# Altium footprint library PcbLib1.PcbLib: 22 footprints (part 2 of 2)
Each footprint in its own frame and in the unit in brackets; x right, y up, seen from the top. Pads: shape width x height; smd on the part's side, far side on the other; paste and mask are expansions set on the pad; w line width, h text height; cw(c..) or ccw(c..) is an arc to the next point about the centre after c.
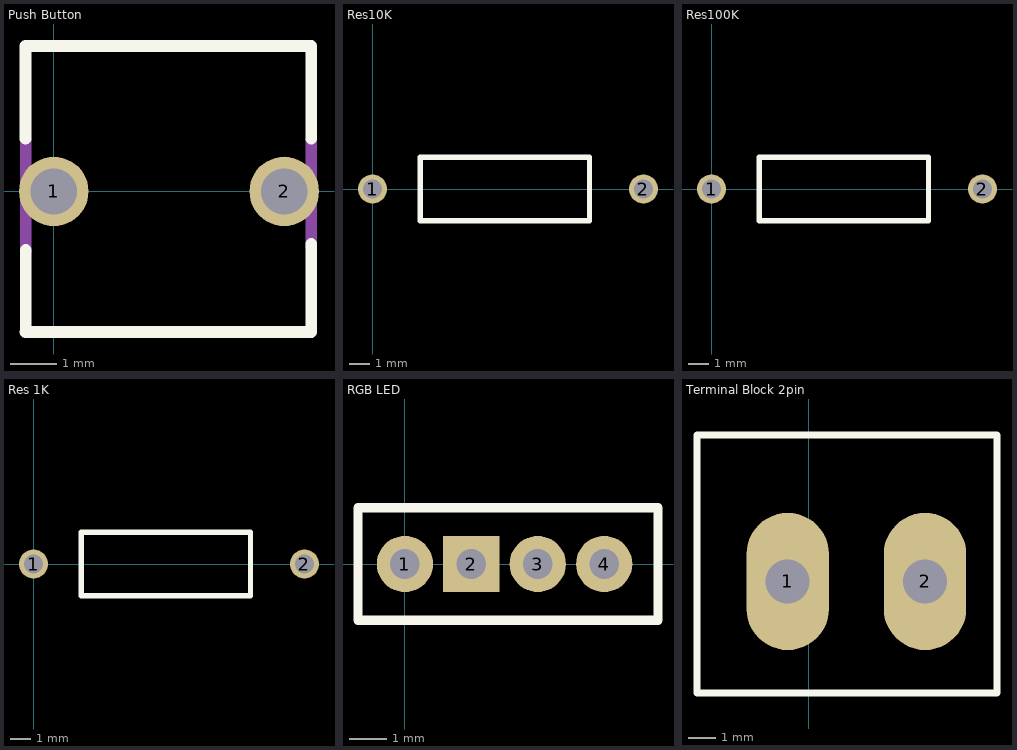
[diagram p1: the footprints below, top view; thin cyan lines are the x and y axes]

## Push Button [mm]
pads (2):
  round 1.508 hole 1: 1(0,0) 2(5,0)
Top Overlay:
  lines w0.254: -0.612,-3.048 5.588,-3.048 5.588,-1.143 ; -0.612,1.143 -0.612,3.152 5.588,3.152 5.588,1.143 ; -0.61,-3.046 -0.61,-1.27
Mechanical 1:
  lines w0.254: -0.61,-1.295 -0.61,1.092 ; 5.588,-1.194 5.588,1.118

## Res10K [mm]
pads (2):
  round 1.4 hole 0.9: 1(0,0) 2(13,0)
Top Overlay:
  lines w0.254: 2.286,-1.524 10.414,-1.524 10.414,1.524 2.286,1.524 2.286,-1.524
3D body "res10k[3].STEP": height 4.04, standoff -7.5, extent -0.196,-1.23 13.404,1.27

## Res100K [mm]
pads (2):
  round 1.4 hole 0.9: 1(0,0) 2(13,0)
Top Overlay:
  lines w0.254: 2.286,-1.524 10.414,-1.524 10.414,1.524 2.286,1.524 2.286,-1.524
3D body "res100k22.STEP": height 4.04, standoff -7.5, extent -0.196,-1.27 13.404,1.23

## Res 1K [mm]
pads (2):
  round 1.4 hole 0.9: 1(0,0) 2(13,0)
Top Overlay:
  lines w0.254: 2.286,-1.524 10.414,-1.524 10.414,1.524 2.286,1.524 2.286,-1.524
3D body "res1k.STEP": height 4.04, standoff -7.5, extent -0.196,-1.27 13.404,1.23

## RGB LED [mil]
pads (4):
  round 60 hole 31.5: 1(0,0) 3(141.73,0) 4(212.6,0)
  rect 60x60 hole 31.5: 2(70.87,0)
Top Overlay:
  lines w10: -50,-60 270,-60 270,60 -50,60 -50,-60

## Terminal Block 2pin [mm]
pads (2):
  oval 3x5 hole 1.6: 1(-0.762,9.144) 2(4.238,9.144)
Top Overlay:
  lines w0.254: -4.064,5.08 -4.064,14.478 6.858,14.478 6.858,5.08 -4.064,5.08
3D body "OSTTA020161--3DModel-STEP-56544.STEP": height 12.6, standoff -3.8, extent -3.903,5.224 6.697,14.224